# Altium integrated library Oscillators.IntLib: 2 symbols
Pins are listed as number, name and electrical type; pins without a type are passive.

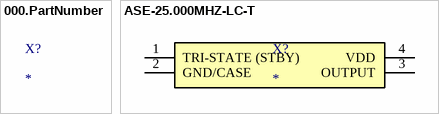
[diagram p0: symbols 000.PartNumber to ASE-25.000MHZ-LC-T]

## 000.PartNumber
designator X?
Digikey Description; Manufacturer: *; Series: *; Package: *; Base Resonator: *; Type: *; Function: *; Output: *; Voltage - Supply: *; Frequency Stability: *; Absolute Pull Range (APR): *; Operating Temperature: *; Current - Supply (Max): *; Ratings: *; Mounting Type: *; Package / Case: *; Size / Dimension: *; Height - Seated (Max): *; Current - Supply (Disable) (Max): *; Frequency: *; Ozdisan Link: *; Digikey Link: *; Farnell TR Link: *; Mouser Link: *

## ASE-25.000MHZ-LC-T
designator X?
XTAL OSC XO 25.0000MHZ CMOS SMD; Manufacturer: Abracon LLC; Base Resonator: Crystal; Function: Enable/Disable; Voltage - Supply: 3.3 V; Frequency Stability: ±50ppm; Current - Supply (Max): 13 mA; Current - Supply (Disable) (Max): 10 µA; Frequency: 25 MHz; Series: ASE; Package: Tape & Reel (TR); Type: XO (Standard); Output: CMOS; Absolute Pull Range (APR): -; Operating Temperature: -40°C ~ 85°C; Ratings: -; Mounting Type: Surface Mount; Package / Case: 4-SMD, No Lead; Size / Dimension: 0.126" L x 0.098" W (3.20mm x 2.50mm); Height - Seated (Max): 0.047" (1.20mm); Ozdisan Link: https://ozdisan.com/pasif-komponentler/kristaller-osilatorler-ve-rezanatorler/osilatorler/ASE-25-000MHZ-LC-T; Digikey Link: https://www.digikey.com/en/products/detail/abracon-llc/ASE-25-000MHZ-LC-T/1236885?s=N4IgTCBcDaIIIGUCiBaMBWAdABlwWQAkAtFAGQGEUAVEAXQF8g; Farnell TR Link: https://tr.farnell.com/abracon/ase-25-000mhz-lc-t/crystal-oscillator-cmos-25mhz/dp/2308704?st=ase-25.000mhz-lc-t; Mouser Link: https://www.mouser.com.tr/ProductDetail/ABRACON/ASE-25000MHZ-LC-T?qs=ShQ8XZQtgRuW6p4KtHOZPQ%3D%3D
footprint ABRACON_ASE
pins: 1 TRI-STATE (STBY), 2 GND/CASE, 3 OUTPUT, 4 VDD